# EAGLE library part LMD18245T (library stepper_drivers_etc)
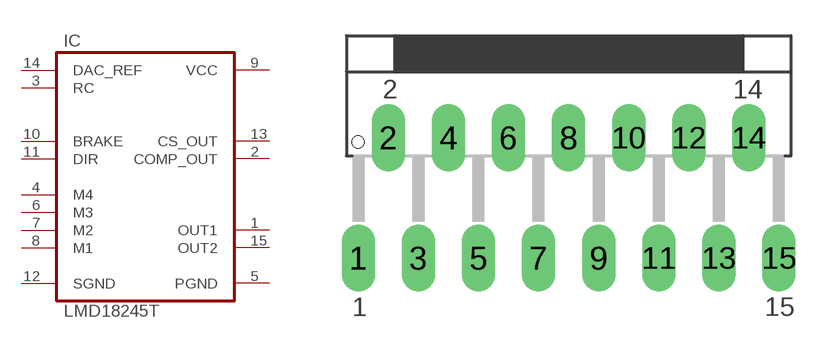
[diagram p5: symbol with the pads of TO-220-15; footprint TO-220-15]

Designator prefix IC

## LMD18245T  [TO-220-15]
1  OUT1  out
2  COMP_OUT  out
3  RC  pas
4  M4  in
5  PGND  pwr
6  M3  in
7  M2  in
8  M1  in
9  VCC  pwr
10  BRAKE  in
11  DIR  in
12  SGND  pwr
13  CS_OUT  pas
14  DAC_REF  pas
15  OUT2  out

## Footprint TO-220-15 (pad centres in mm)
drill 0.305 pad 1.422 long: 1 -8.89,-2.54; 2 -7.62,2.54; 3 -6.35,-2.54; 4 -5.08,2.54; 5 -3.81,-2.54; 6 -2.54,2.54; 7 -1.27,-2.54; 8 0,2.54; 9 1.27,-2.54; 10 2.54,2.54; 11 3.81,-2.54; 12 5.08,2.54; 13 6.35,-2.54; 14 7.62,2.54; 15 8.89,-2.54